# EAGLE library part MCP2517FD (library lichtenstein_onion)
MCP2517FD – External CAN FD Controller with SPI Interface Information <https://www.microchip.com/wwwproducts/en/MCP2517FD> Datasheet <http://ww1.microchip.com/downloads/en/DeviceDoc/MCP2517FD-External-CAN-FD-Controller-with-SPI-Interface-20005688B.pdf>
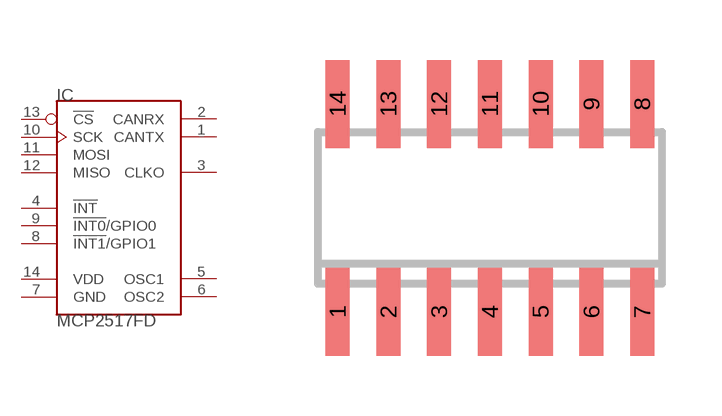
[diagram p14: symbol with the pads of SO-14; footprint SO-14]

Designator prefix IC

## MCP2517FDSOIC-14  [SO-14]
1  CANTX
2  CANRX
3  CLKO
4  !INT  out
5  OSC1
6  OSC2
7  GND  pwr
8  !INT1!/GPIO1
9  !INT0!/GPIO0
10  SCK  in
11  MOSI  in
12  MISO  out
13  !CS  in
14  VDD  pwr

## Footprint SO-14 (pad centres in mm)
Small Outline Narrow Plastic Gull Wing 150-mil body, package type SL
smd 0.6 x 2.2: 1 -3.81,-2.6; 2 -2.54,-2.6; 3 -1.27,-2.6; 4 0,-2.6; 5 1.27,-2.6; 6 2.54,-2.6; 7 3.81,-2.6; 8 3.81,2.6; 9 2.54,2.6; 10 1.27,2.6; 11 0,2.6; 12 -1.27,2.6; 13 -2.54,2.6; 14 -3.81,2.6